# Altium schematic symbol library TSR1-2450.SchLib: 1 symbol
Pins are listed as number, name and electrical type; pins without a type are passive.

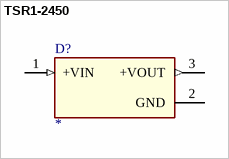
[diagram p0: symbol TSR1-2450]

## TSR1-2450
designator D?
MF: Traco Power; MP: TSR1-2450; Value: *; Availability: Unavailable; Price: None; Package: None; ComponentLink1Description: New link; ComponentLink1URL: C:\Users\Public\Documents\Altium\Library\pdf\TSR1-2450.pdf
footprint CONV_TSR_1-2450
pins: 1 +VIN (in), 2 GND (power), 3 +VOUT (out)